# Altium schematic symbol library WCAP-CSST.SchLib: 35 symbols
Pins are listed as number, name and electrical type; pins without a type are passive.

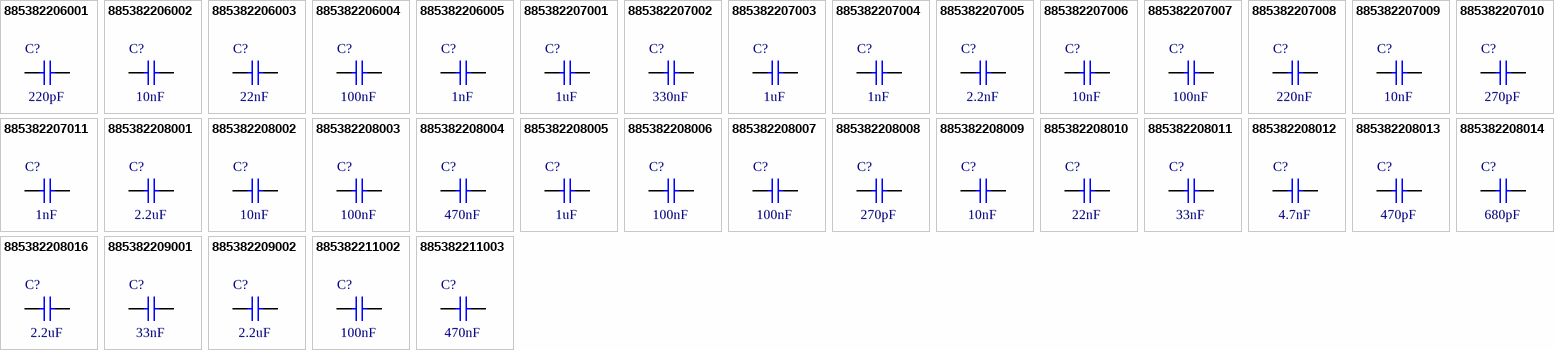
[diagram p0: symbols 885382206001 to 885382211003]

## 885382206001
designator C?, comment 220pF
WCAP-CSST Multilayer Ceramic Chip Capacitor, Soft Termination, SMT, size 0603, X7R Class II, 220pF, 50V; Manufacturer Part Number: 885382206001; Manufacturer: Wurth Elektronik; Case/Size Code: 0603; Capacitance Tolerance: +/-10%; Dissipation Factor: 2.5%; Insulation Resistance: 10GOhm; Technical Reference: X7R0603221K050DFCT1S000; Category: Multilayer Ceramic Chip Capacitors; Match Code: WCAP-CSST; ComponentLink1Description: Website Link; ComponentLink1URL: https://www.we-online.com/redexpert/article/885382206001?ad; ComponentLink2Description: Datasheet Link; ComponentLink2URL: https://www.we-online.com/redexpert/spec/885382206001?ad; Mount: Surface Mount; Operating Temperature Max: 125°C; Operating Temperature Min: -55°C; Packaging: Tape and Reel; Length: 1.6mm; Width: 0.8mm; Height: 0.8mm; Capacitance: 220pF; Ceramic Type: X7R Class II; Rated Voltage (DC): 50V
footprint WCAP-CSST_0603_L1.6W0.8H0.8_Reflow
footprint WCAP-CSST_0603_L1.6W0.8H0.8_Wave
simulation model 0603_885382206001_220pF
pins: 1, 2

## 885382206002
designator C?, comment 10nF
WCAP-CSST Multilayer Ceramic Chip Capacitor, Soft Termination, SMT, size 0603, X7R Class II, 10nF, 50V; Manufacturer Part Number: 885382206002; Manufacturer: Wurth Elektronik; Case/Size Code: 0603; Capacitance Tolerance: +/-10%; Dissipation Factor: 2.5%; Insulation Resistance: 10GOhm; Technical Reference: X7R0603103K050DFCT1S000; Category: Multilayer Ceramic Chip Capacitors; Match Code: WCAP-CSST; ComponentLink1Description: Website Link; ComponentLink1URL: https://www.we-online.com/redexpert/article/885382206002?ad; ComponentLink2Description: Datasheet Link; ComponentLink2URL: https://www.we-online.com/redexpert/spec/885382206002?ad; Mount: Surface Mount; Operating Temperature Max: 125°C; Operating Temperature Min: -55°C; Packaging: Tape and Reel; Length: 1.6mm; Width: 0.8mm; Height: 0.8mm; Capacitance: 10nF; Ceramic Type: X7R Class II; Rated Voltage (DC): 50V
footprint WCAP-CSST_0603_L1.6W0.8H0.8_Reflow
footprint WCAP-CSST_0603_L1.6W0.8H0.8_Wave
simulation model 0603_885382206002_10nF
pins: 1, 2

## 885382206003
designator C?, comment 22nF
WCAP-CSST Multilayer Ceramic Chip Capacitor, Soft Termination, SMT, size 0603, X7R Class II, 22nF, 50V; Manufacturer Part Number: 885382206003; Manufacturer: Wurth Elektronik; Case/Size Code: 0603; Capacitance Tolerance: +/-10%; Dissipation Factor: 2.5%; Insulation Resistance: 10GOhm; Technical Reference: X7R0603223K050DFCT1S000; Category: Multilayer Ceramic Chip Capacitors; Match Code: WCAP-CSST; ComponentLink1Description: Website Link; ComponentLink1URL: https://www.we-online.com/redexpert/article/885382206003?ad; ComponentLink2Description: Datasheet Link; ComponentLink2URL: https://www.we-online.com/redexpert/spec/885382206003?ad; Mount: Surface Mount; Operating Temperature Max: 125°C; Operating Temperature Min: -55°C; Packaging: Tape and Reel; Length: 1.6mm; Width: 0.8mm; Height: 0.8mm; Capacitance: 22nF; Ceramic Type: X7R Class II; Rated Voltage (DC): 50V
footprint WCAP-CSST_0603_L1.6W0.8H0.8_Reflow
footprint WCAP-CSST_0603_L1.6W0.8H0.8_Wave
simulation model 0603_885382206003_22nF
pins: 1, 2

## 885382206004
designator C?, comment 100nF
WCAP-CSST Multilayer Ceramic Chip Capacitor, Soft Termination, SMT, size 0603, X7R Class II, 100nF, 50V; Manufacturer Part Number: 885382206004; Manufacturer: Wurth Elektronik; Case/Size Code: 0603; Capacitance Tolerance: +/-10%; Dissipation Factor: 3%; Insulation Resistance: 5GOhm; Technical Reference: X7R0603104K050DFCT1S000; Category: Multilayer Ceramic Chip Capacitors; Match Code: WCAP-CSST; ComponentLink1Description: Website Link; ComponentLink1URL: https://www.we-online.com/redexpert/article/885382206004?ad; ComponentLink2Description: Datasheet Link; ComponentLink2URL: https://www.we-online.com/redexpert/spec/885382206004?ad; Mount: Surface Mount; Operating Temperature Max: 125°C; Operating Temperature Min: -55°C; Packaging: Tape and Reel; Length: 1.6mm; Width: 0.8mm; Height: 0.8mm; Capacitance: 100nF; Ceramic Type: X7R Class II; Rated Voltage (DC): 50V
footprint WCAP-CSST_0603_L1.6W0.8H0.8_Reflow
footprint WCAP-CSST_0603_L1.6W0.8H0.8_Wave
simulation model 0603_885382206004_100nF
pins: 1, 2

## 885382206005
designator C?, comment 1nF
WCAP-CSST Multilayer Ceramic Chip Capacitor, Soft Termination, SMT, size 0603, X7R Class II, 1nF, 200V; Manufacturer Part Number: 885382206005; Manufacturer: Wurth Elektronik; Case/Size Code: 0603; Capacitance Tolerance: +/-10%; Dissipation Factor: 2.5%; Insulation Resistance: 10GOhm; Technical Reference: X7R0603102K200DFCT1S000; Category: Multilayer Ceramic Chip Capacitors; Match Code: WCAP-CSST; ComponentLink1Description: Website Link; ComponentLink1URL: https://www.we-online.com/redexpert/article/885382206005?ad; ComponentLink2Description: Datasheet Link; ComponentLink2URL: https://www.we-online.com/redexpert/spec/885382206005?ad; Mount: Surface Mount; Operating Temperature Max: 125°C; Operating Temperature Min: -55°C; Packaging: Tape and Reel; Length: 1.6mm; Width: 0.8mm; Height: 0.8mm; Capacitance: 1nF; Ceramic Type: X7R Class II; Rated Voltage (DC): 200V
footprint WCAP-CSST_0603_L1.6W0.8H0.8_Reflow
footprint WCAP-CSST_0603_L1.6W0.8H0.8_Wave
simulation model 0603_885382206005_1nF
pins: 1, 2

## 885382207001
designator C?, comment 1uF
WCAP-CSST Multilayer Ceramic Chip Capacitor, Soft Termination, SMT, size 0805, X7R Class II, 1uF, 16V; Manufacturer Part Number: 885382207001; Manufacturer: Wurth Elektronik; Case/Size Code: 0805; Capacitance Tolerance: +/-10%; Dissipation Factor: 5%; Insulation Resistance: 0.5GOhm; Technical Reference: X7R0805105K016DFCT1S000; Category: Multilayer Ceramic Chip Capacitors; Match Code: WCAP-CSST; ComponentLink1Description: Website Link; ComponentLink1URL: https://www.we-online.com/redexpert/article/885382207001?ad; ComponentLink2Description: Datasheet Link; ComponentLink2URL: https://www.we-online.com/redexpert/spec/885382207001?ad; Mount: Surface Mount; Operating Temperature Max: 125°C; Operating Temperature Min: -55°C; Packaging: Tape and Reel; Length: 2mm; Width: 1.25mm; Height: 1.25mm; Capacitance: 1uF; Ceramic Type: X7R Class II; Rated Voltage (DC): 16V
footprint WCAP-CSST_0805_L2W1.25H1.25
simulation model 0805_885382207001_1uF
pins: 1, 2

## 885382207002
designator C?, comment 330nF
WCAP-CSST Multilayer Ceramic Chip Capacitor, Soft Termination, SMT, size 0805, X7R Class II, 330nF, 25V; Manufacturer Part Number: 885382207002; Manufacturer: Wurth Elektronik; Case/Size Code: 0805; Capacitance Tolerance: +/-10%; Dissipation Factor: 3.5%; Insulation Resistance: 1.5GOhm; Technical Reference: X7R0805334K025DFCT1S000; Category: Multilayer Ceramic Chip Capacitors; Match Code: WCAP-CSST; ComponentLink1Description: Website Link; ComponentLink1URL: https://www.we-online.com/redexpert/article/885382207002?ad; ComponentLink2Description: Datasheet Link; ComponentLink2URL: https://www.we-online.com/redexpert/spec/885382207002?ad; Mount: Surface Mount; Operating Temperature Max: 125°C; Operating Temperature Min: -55°C; Packaging: Tape and Reel; Length: 2mm; Width: 1.25mm; Height: 1.25mm; Capacitance: 330nF; Ceramic Type: X7R Class II; Rated Voltage (DC): 25V
footprint WCAP-CSST_0805_L2W1.25H1.25
simulation model 0805_885382207002_330nF
pins: 1, 2

## 885382207003
designator C?, comment 1uF
WCAP-CSST Multilayer Ceramic Chip Capacitor, Soft Termination, SMT, size 0805, X7R Class II, 1uF, 25V; Manufacturer Part Number: 885382207003; Manufacturer: Wurth Elektronik; Case/Size Code: 0805; Capacitance Tolerance: +/-10%; Dissipation Factor: 5%; Insulation Resistance: 0.5GOhm; Technical Reference: X7R0805105K025DFCT1S000; Category: Multilayer Ceramic Chip Capacitors; Match Code: WCAP-CSST; ComponentLink1Description: Website Link; ComponentLink1URL: https://www.we-online.com/redexpert/article/885382207003?ad; ComponentLink2Description: Datasheet Link; ComponentLink2URL: https://www.we-online.com/redexpert/spec/885382207003?ad; Mount: Surface Mount; Operating Temperature Max: 125°C; Operating Temperature Min: -55°C; Packaging: Tape and Reel; Length: 2mm; Width: 1.25mm; Height: 1.25mm; Capacitance: 1uF; Ceramic Type: X7R Class II; Rated Voltage (DC): 25V
footprint WCAP-CSST_0805_L2W1.25H1.25
simulation model 0805_885382207003_1uF
pins: 1, 2

## 885382207004
designator C?, comment 1nF
WCAP-CSST Multilayer Ceramic Chip Capacitor, Soft Termination, SMT, size 0805, X7R Class II, 1nF, 50V; Manufacturer Part Number: 885382207004; Manufacturer: Wurth Elektronik; Case/Size Code: 0805; Capacitance Tolerance: +/-10%; Dissipation Factor: 2.5%; Insulation Resistance: 10GOhm; Technical Reference: X7R0805102K050DFCT1S000; Category: Multilayer Ceramic Chip Capacitors; Match Code: WCAP-CSST; ComponentLink1Description: Website Link; ComponentLink1URL: https://www.we-online.com/redexpert/article/885382207004?ad; ComponentLink2Description: Datasheet Link; ComponentLink2URL: https://www.we-online.com/redexpert/spec/885382207004?ad; Mount: Surface Mount; Operating Temperature Max: 125°C; Operating Temperature Min: -55°C; Packaging: Tape and Reel; Length: 2mm; Width: 1.25mm; Height: 1.25mm; Capacitance: 1nF; Ceramic Type: X7R Class II; Rated Voltage (DC): 50V
footprint WCAP-CSST_0805_L2W1.25H1.25
simulation model 0805_885382207004_1nF
pins: 1, 2

## 885382207005
designator C?, comment 2.2nF
WCAP-CSST Multilayer Ceramic Chip Capacitor, Soft Termination, SMT, size 0805, X7R Class II, 2.2nF, 50V; Manufacturer Part Number: 885382207005; Manufacturer: Wurth Elektronik; Case/Size Code: 0805; Capacitance Tolerance: +/-10%; Dissipation Factor: 2.5%; Insulation Resistance: 10GOhm; Technical Reference: X7R0805222K050DFCT1S000; Category: Multilayer Ceramic Chip Capacitors; Match Code: WCAP-CSST; ComponentLink1Description: Website Link; ComponentLink1URL: https://www.we-online.com/redexpert/article/885382207005?ad; ComponentLink2Description: Datasheet Link; ComponentLink2URL: https://www.we-online.com/redexpert/spec/885382207005?ad; Mount: Surface Mount; Operating Temperature Max: 125°C; Operating Temperature Min: -55°C; Packaging: Tape and Reel; Length: 2mm; Width: 1.25mm; Height: 1.25mm; Capacitance: 2.2nF; Ceramic Type: X7R Class II; Rated Voltage (DC): 50V
footprint WCAP-CSST_0805_L2W1.25H1.25
simulation model 0805_885382207005_2.2nF
pins: 1, 2

## 885382207006
designator C?, comment 10nF
WCAP-CSST Multilayer Ceramic Chip Capacitor, Soft Termination, SMT, size 0805, X7R Class II, 10nF, 50V; Manufacturer Part Number: 885382207006; Manufacturer: Wurth Elektronik; Case/Size Code: 0805; Capacitance Tolerance: +/-10%; Dissipation Factor: 2.5%; Insulation Resistance: 10GOhm; Technical Reference: X7R0805103K050DFCT1S000; Category: Multilayer Ceramic Chip Capacitors; Match Code: WCAP-CSST; ComponentLink1Description: Website Link; ComponentLink1URL: https://www.we-online.com/redexpert/article/885382207006?ad; ComponentLink2Description: Datasheet Link; ComponentLink2URL: https://www.we-online.com/redexpert/spec/885382207006?ad; Mount: Surface Mount; Operating Temperature Max: 125°C; Operating Temperature Min: -55°C; Packaging: Tape and Reel; Length: 2mm; Width: 1.25mm; Height: 1.25mm; Capacitance: 10nF; Ceramic Type: X7R Class II; Rated Voltage (DC): 50V
footprint WCAP-CSST_0805_L2W1.25H1.25
simulation model 0805_885382207006_10nF
pins: 1, 2

## 885382207007
designator C?, comment 100nF
WCAP-CSST Multilayer Ceramic Chip Capacitor, Soft Termination, SMT, size 0805, X7R Class II, 100nF, 50V; Manufacturer Part Number: 885382207007; Manufacturer: Wurth Elektronik; Case/Size Code: 0805; Capacitance Tolerance: +/-10%; Dissipation Factor: 2.5%; Insulation Resistance: 5GOhm; Technical Reference: X7R0805104K050DFCT1S000; Category: Multilayer Ceramic Chip Capacitors; Match Code: WCAP-CSST; ComponentLink1Description: Website Link; ComponentLink1URL: https://www.we-online.com/redexpert/article/885382207007?ad; ComponentLink2Description: Datasheet Link; ComponentLink2URL: https://www.we-online.com/redexpert/spec/885382207007?ad; Mount: Surface Mount; Operating Temperature Max: 125°C; Operating Temperature Min: -55°C; Packaging: Tape and Reel; Length: 2mm; Width: 1.25mm; Height: 1.25mm; Capacitance: 100nF; Ceramic Type: X7R Class II; Rated Voltage (DC): 50V
footprint WCAP-CSST_0805_L2W1.25H1.25
simulation model 0805_885382207007_100nF
pins: 1, 2

## 885382207008
designator C?, comment 220nF
WCAP-CSST Multilayer Ceramic Chip Capacitor, Soft Termination, SMT, size 0805, X7R Class II, 220nF, 50V; Manufacturer Part Number: 885382207008; Manufacturer: Wurth Elektronik; Case/Size Code: 0805; Capacitance Tolerance: +/-10%; Dissipation Factor: 3%; Insulation Resistance: 2.3GOhm; Technical Reference: X7R0805224K050DFCT1S000; Category: Multilayer Ceramic Chip Capacitors; Match Code: WCAP-CSST; ComponentLink1Description: Website Link; ComponentLink1URL: https://www.we-online.com/redexpert/article/885382207008?ad; ComponentLink2Description: Datasheet Link; ComponentLink2URL: https://www.we-online.com/redexpert/spec/885382207008?ad; Mount: Surface Mount; Operating Temperature Max: 125°C; Operating Temperature Min: -55°C; Packaging: Tape and Reel; Length: 2mm; Width: 1.25mm; Height: 1.25mm; Capacitance: 220nF; Ceramic Type: X7R Class II; Rated Voltage (DC): 50V
footprint WCAP-CSST_0805_L2W1.25H1.25
simulation model 0805_885382207008_220nF
pins: 1, 2

## 885382207009
designator C?, comment 10nF
WCAP-CSST Multilayer Ceramic Chip Capacitor, Soft Termination, SMT, size 0805, X7R Class II, 10nF, 100V; Manufacturer Part Number: 885382207009; Manufacturer: Wurth Elektronik; Case/Size Code: 0805; Capacitance Tolerance: +/-10%; Dissipation Factor: 2.5%; Insulation Resistance: 10GOhm; Technical Reference: X7R0805103K100DFCT1S000; Category: Multilayer Ceramic Chip Capacitors; Match Code: WCAP-CSST; ComponentLink1Description: Website Link; ComponentLink1URL: https://www.we-online.com/redexpert/article/885382207009?ad; ComponentLink2Description: Datasheet Link; ComponentLink2URL: https://www.we-online.com/redexpert/spec/885382207009?ad; Mount: Surface Mount; Operating Temperature Max: 125°C; Operating Temperature Min: -55°C; Packaging: Tape and Reel; Length: 2mm; Width: 1.25mm; Height: 1.25mm; Capacitance: 10nF; Ceramic Type: X7R Class II; Rated Voltage (DC): 100V
footprint WCAP-CSST_0805_L2W1.25H1.25
simulation model 0805_885382207009_10nF
pins: 1, 2

## 885382207010
designator C?, comment 270pF
WCAP-CSST Multilayer Ceramic Chip Capacitor, Soft Termination, SMT, size 0805, X7R Class II, 270pF, 500V; Manufacturer Part Number: 885382207010; Manufacturer: Wurth Elektronik; Case/Size Code: 0805; Capacitance Tolerance: +/-10%; Dissipation Factor: 2.5%; Insulation Resistance: 10GOhm; Technical Reference: X7R0805271K500DFCT1S000; Category: Multilayer Ceramic Chip Capacitors; Match Code: WCAP-CSST; ComponentLink1Description: Website Link; ComponentLink1URL: https://www.we-online.com/redexpert/article/885382207010?ad; ComponentLink2Description: Datasheet Link; ComponentLink2URL: https://www.we-online.com/redexpert/spec/885382207010?ad; Mount: Surface Mount; Operating Temperature Max: 125°C; Operating Temperature Min: -55°C; Packaging: Tape and Reel; Length: 2mm; Width: 1.25mm; Height: 1.25mm; Capacitance: 270pF; Ceramic Type: X7R Class II; Rated Voltage (DC): 500V
footprint WCAP-CSST_0805_L2W1.25H1.25
simulation model 0805_885382207010_270pF
pins: 1, 2

## 885382207011
designator C?, comment 1nF
WCAP-CSST Multilayer Ceramic Chip Capacitor, Soft Termination, SMT, size 0805, X7R Class II, 1nF, 100V; Manufacturer Part Number: 885382207011; Manufacturer: Wurth Elektronik; Case/Size Code: 0805; Capacitance Tolerance: +/-10%; Dissipation Factor: 2.5%; Insulation Resistance: 10GOhm; Technical Reference: X7R0805102K100DFCT1S000; Category: Multilayer Ceramic Chip Capacitors; Match Code: WCAP-CSST; ComponentLink1Description: Website Link; ComponentLink1URL: https://www.we-online.com/redexpert/article/885382207011?ad; ComponentLink2Description: Datasheet Link; ComponentLink2URL: https://www.we-online.com/redexpert/spec/885382207011?ad; Mount: Surface Mount; Operating Temperature Max: 125°C; Operating Temperature Min: -55°C; Packaging: Tape and Reel; Length: 2mm; Width: 1.25mm; Height: 1.25mm; Capacitance: 1nF; Ceramic Type: X7R Class II; Rated Voltage (DC): 100V
footprint WCAP-CSST_0805_L2W1.25H1.25
simulation model 0805_885382207011_1nF
pins: 1, 2

## 885382208001
designator C?, comment 2.2uF
WCAP-CSST Multilayer Ceramic Chip Capacitor, Soft Termination, SMT, size 1206, X7R Class II, 2.2uF, 25V; Manufacturer Part Number: 885382208001; Manufacturer: Wurth Elektronik; Case/Size Code: 1206; Capacitance Tolerance: +/-10%; Dissipation Factor: 3.5%; Insulation Resistance: 0.2GOhm; Technical Reference: X7R1206225K025DFCT1S000; Category: Multilayer Ceramic Chip Capacitors; Match Code: WCAP-CSST; ComponentLink1Description: Website Link; ComponentLink1URL: https://www.we-online.com/redexpert/article/885382208001?ad; ComponentLink2Description: Datasheet Link; ComponentLink2URL: https://www.we-online.com/redexpert/spec/885382208001?ad; Mount: Surface Mount; Operating Temperature Max: 125°C; Operating Temperature Min: -55°C; Packaging: Tape and Reel; Length: 3.2mm; Width: 1.6mm; Height: 1.6mm; Capacitance: 2.2uF; Ceramic Type: X7R Class II; Rated Voltage (DC): 25V
footprint WCAP-CSST_1206_L3.2W1.6H1.6
simulation model 1206_885382208001_2.2uF
pins: 1, 2

## 885382208002
designator C?, comment 10nF
WCAP-CSST Multilayer Ceramic Chip Capacitor, Soft Termination, SMT, size 1206, X7R Class II, 10nF, 50V; Manufacturer Part Number: 885382208002; Manufacturer: Wurth Elektronik; Case/Size Code: 1206; Capacitance Tolerance: +/-10%; Dissipation Factor: 2.5%; Insulation Resistance: 10GOhm; Technical Reference: X7R1206103K050DFCT1S000; Category: Multilayer Ceramic Chip Capacitors; Match Code: WCAP-CSST; ComponentLink1Description: Website Link; ComponentLink1URL: https://www.we-online.com/redexpert/article/885382208002?ad; ComponentLink2Description: Datasheet Link; ComponentLink2URL: https://www.we-online.com/redexpert/spec/885382208002?ad; Mount: Surface Mount; Operating Temperature Max: 125°C; Operating Temperature Min: -55°C; Packaging: Tape and Reel; Length: 3.2mm; Width: 1.6mm; Height: 1.25mm; Capacitance: 10nF; Ceramic Type: X7R Class II; Rated Voltage (DC): 50V
footprint WCAP-CSST_1206_L3.2W1.6H1.25
simulation model 1206_885382208002_10nF
pins: 1, 2

## 885382208003
designator C?, comment 100nF
WCAP-CSST Multilayer Ceramic Chip Capacitor, Soft Termination, SMT, size 1206, X7R Class II, 100nF, 50V; Manufacturer Part Number: 885382208003; Manufacturer: Wurth Elektronik; Case/Size Code: 1206; Capacitance Tolerance: +/-10%; Dissipation Factor: 2.5%; Insulation Resistance: 5GOhm; Technical Reference: X7R1206104K050DFCT1S000; Category: Multilayer Ceramic Chip Capacitors; Match Code: WCAP-CSST; ComponentLink1Description: Website Link; ComponentLink1URL: https://www.we-online.com/redexpert/article/885382208003?ad; ComponentLink2Description: Datasheet Link; ComponentLink2URL: https://www.we-online.com/redexpert/spec/885382208003?ad; Mount: Surface Mount; Operating Temperature Max: 125°C; Operating Temperature Min: -55°C; Packaging: Tape and Reel; Length: 3.2mm; Width: 1.6mm; Height: 1.25mm; Capacitance: 100nF; Ceramic Type: X7R Class II; Rated Voltage (DC): 50V
footprint WCAP-CSST_1206_L3.2W1.6H1.25
simulation model 1206_885382208003_100nF
pins: 1, 2

## 885382208004
designator C?, comment 470nF
WCAP-CSST Multilayer Ceramic Chip Capacitor, Soft Termination, SMT, size 1206, X7R Class II, 470nF, 50V; Manufacturer Part Number: 885382208004; Manufacturer: Wurth Elektronik; Case/Size Code: 1206; Capacitance Tolerance: +/-10%; Dissipation Factor: 3%; Insulation Resistance: 1GOhm; Technical Reference: X7R1206474K050DFCT1S000; Category: Multilayer Ceramic Chip Capacitors; Match Code: WCAP-CSST; ComponentLink1Description: Website Link; ComponentLink1URL: https://www.we-online.com/redexpert/article/885382208004?ad; ComponentLink2Description: Datasheet Link; ComponentLink2URL: https://www.we-online.com/redexpert/spec/885382208004?ad; Mount: Surface Mount; Operating Temperature Max: 125°C; Operating Temperature Min: -55°C; Packaging: Tape and Reel; Length: 3.2mm; Width: 1.6mm; Height: 1.6mm; Capacitance: 470nF; Ceramic Type: X7R Class II; Rated Voltage (DC): 50V
footprint WCAP-CSST_1206_L3.2W1.6H1.6
simulation model 1206_885382208004_470nF
pins: 1, 2

## 885382208005
designator C?, comment 1uF
WCAP-CSST Multilayer Ceramic Chip Capacitor, Soft Termination, SMT, size 1206, X7R Class II, 1uF, 50V; Manufacturer Part Number: 885382208005; Manufacturer: Wurth Elektronik; Case/Size Code: 1206; Capacitance Tolerance: +/-10%; Dissipation Factor: 3%; Insulation Resistance: 0.5GOhm; Technical Reference: X7R1206105K050DFCT1S000; Category: Multilayer Ceramic Chip Capacitors; Match Code: WCAP-CSST; ComponentLink1Description: Website Link; ComponentLink1URL: https://www.we-online.com/redexpert/article/885382208005?ad; ComponentLink2Description: Datasheet Link; ComponentLink2URL: https://www.we-online.com/redexpert/spec/885382208005?ad; Mount: Surface Mount; Operating Temperature Max: 125°C; Operating Temperature Min: -55°C; Packaging: Tape and Reel; Length: 3.2mm; Width: 1.6mm; Height: 1.6mm; Capacitance: 1uF; Ceramic Type: X7R Class II; Rated Voltage (DC): 50V
footprint WCAP-CSST_1206_L3.2W1.6H1.6
simulation model 1206_885382208005_1uF
pins: 1, 2

## 885382208006
designator C?, comment 100nF
WCAP-CSST Multilayer Ceramic Chip Capacitor, Soft Termination, SMT, size 1206, X7R Class II, 100nF, 100V; Manufacturer Part Number: 885382208006; Manufacturer: Wurth Elektronik; Case/Size Code: 1206; Capacitance Tolerance: +/-10%; Dissipation Factor: 2.5%; Insulation Resistance: 1GOhm; Technical Reference: X7R1206104K100DFCT1S000; Category: Multilayer Ceramic Chip Capacitors; Match Code: WCAP-CSST; ComponentLink1Description: Website Link; ComponentLink1URL: https://www.we-online.com/redexpert/article/885382208006?ad; ComponentLink2Description: Datasheet Link; ComponentLink2URL: https://www.we-online.com/redexpert/spec/885382208006?ad; Mount: Surface Mount; Operating Temperature Max: 125°C; Operating Temperature Min: -55°C; Packaging: Tape and Reel; Length: 3.2mm; Width: 1.6mm; Height: 1.25mm; Capacitance: 100nF; Ceramic Type: X7R Class II; Rated Voltage (DC): 100V
footprint WCAP-CSST_1206_L3.2W1.6H1.25
simulation model 1206_885382208006_100nF
pins: 1, 2

## 885382208007
designator C?, comment 100nF
WCAP-CSST Multilayer Ceramic Chip Capacitor, Soft Termination, SMT, size 1206, X7R Class II, 100nF, 250V; Manufacturer Part Number: 885382208007; Manufacturer: Wurth Elektronik; Case/Size Code: 1206; Capacitance Tolerance: +/-10%; Dissipation Factor: 2.5%; Insulation Resistance: 1GOhm; Technical Reference: X7R1206104K250DFCT1S000; Category: Multilayer Ceramic Chip Capacitors; Match Code: WCAP-CSST; ComponentLink1Description: Website Link; ComponentLink1URL: https://www.we-online.com/redexpert/article/885382208007?ad; ComponentLink2Description: Datasheet Link; ComponentLink2URL: https://www.we-online.com/redexpert/spec/885382208007?ad; Mount: Surface Mount; Operating Temperature Max: 125°C; Operating Temperature Min: -55°C; Packaging: Tape and Reel; Length: 3.2mm; Width: 1.6mm; Height: 1.6mm; Capacitance: 100nF; Ceramic Type: X7R Class II; Rated Voltage (DC): 250V
footprint WCAP-CSST_1206_L3.2W1.6H1.6
simulation model 1206_885382208007_100nF
pins: 1, 2

## 885382208008
designator C?, comment 270pF
WCAP-CSST Multilayer Ceramic Chip Capacitor, Soft Termination, SMT, size 1206, X7R Class II, 270pF, 500V; Manufacturer Part Number: 885382208008; Manufacturer: Wurth Elektronik; Case/Size Code: 1206; Capacitance Tolerance: +/-10%; Dissipation Factor: 2.5%; Insulation Resistance: 10GOhm; Technical Reference: X7R1206271K500DFCT1S000; Category: Multilayer Ceramic Chip Capacitors; Match Code: WCAP-CSST; ComponentLink1Description: Website Link; ComponentLink1URL: https://www.we-online.com/redexpert/article/885382208008?ad; ComponentLink2Description: Datasheet Link; ComponentLink2URL: https://www.we-online.com/redexpert/spec/885382208008?ad; Mount: Surface Mount; Operating Temperature Max: 125°C; Operating Temperature Min: -55°C; Packaging: Tape and Reel; Length: 3.2mm; Width: 1.6mm; Height: 1.25mm; Capacitance: 270pF; Ceramic Type: X7R Class II; Rated Voltage (DC): 500V
footprint WCAP-CSST_1206_L3.2W1.6H1.25
simulation model 1206_885382208008_270pF
pins: 1, 2

## 885382208009
designator C?, comment 10nF
WCAP-CSST Multilayer Ceramic Chip Capacitor, Soft Termination, SMT, size 1206, X7R Class II, 10nF, 500V; Manufacturer Part Number: 885382208009; Manufacturer: Wurth Elektronik; Case/Size Code: 1206; Capacitance Tolerance: +/-10%; Dissipation Factor: 2.5%; Insulation Resistance: 10GOhm; Technical Reference: X7R1206103K500DFCT1S000; Category: Multilayer Ceramic Chip Capacitors; Match Code: WCAP-CSST; ComponentLink1Description: Website Link; ComponentLink1URL: https://www.we-online.com/redexpert/article/885382208009?ad; ComponentLink2Description: Datasheet Link; ComponentLink2URL: https://www.we-online.com/redexpert/spec/885382208009?ad; Mount: Surface Mount; Operating Temperature Max: 125°C; Operating Temperature Min: -55°C; Packaging: Tape and Reel; Length: 3.2mm; Width: 1.6mm; Height: 1.25mm; Capacitance: 10nF; Ceramic Type: X7R Class II; Rated Voltage (DC): 500V
footprint WCAP-CSST_1206_L3.2W1.6H1.25
simulation model 1206_885382208009_10nF
pins: 1, 2

## 885382208010
designator C?, comment 22nF
WCAP-CSST Multilayer Ceramic Chip Capacitor, Soft Termination, SMT, size 1206, X7R Class II, 22nF, 500V; Manufacturer Part Number: 885382208010; Manufacturer: Wurth Elektronik; Case/Size Code: 1206; Capacitance Tolerance: +/-10%; Dissipation Factor: 2.5%; Insulation Resistance: 4.5GOhm; Technical Reference: X7R1206223K500DFCT1S000; Category: Multilayer Ceramic Chip Capacitors; Match Code: WCAP-CSST; ComponentLink1Description: Website Link; ComponentLink1URL: https://www.we-online.com/redexpert/article/885382208010?ad; ComponentLink2Description: Datasheet Link; ComponentLink2URL: https://www.we-online.com/redexpert/spec/885382208010?ad; Mount: Surface Mount; Operating Temperature Max: 125°C; Operating Temperature Min: -55°C; Packaging: Tape and Reel; Length: 3.2mm; Width: 1.6mm; Height: 1.6mm; Capacitance: 22nF; Ceramic Type: X7R Class II; Rated Voltage (DC): 500V
footprint WCAP-CSST_1206_L3.2W1.6H1.6
simulation model 1206_885382208010_22nF
pins: 1, 2

## 885382208011
designator C?, comment 33nF
WCAP-CSST Multilayer Ceramic Chip Capacitor, Soft Termination, SMT, size 1206, X7R Class II, 33nF, 500V; Manufacturer Part Number: 885382208011; Manufacturer: Wurth Elektronik; Case/Size Code: 1206; Capacitance Tolerance: +/-10%; Dissipation Factor: 2.5%; Insulation Resistance: 3GOhm; Technical Reference: X7R1206333K500DFCT1S000; Category: Multilayer Ceramic Chip Capacitors; Match Code: WCAP-CSST; ComponentLink1Description: Website Link; ComponentLink1URL: https://www.we-online.com/redexpert/article/885382208011?ad; ComponentLink2Description: Datasheet Link; ComponentLink2URL: https://www.we-online.com/redexpert/spec/885382208011?ad; Mount: Surface Mount; Operating Temperature Max: 125°C; Operating Temperature Min: -55°C; Packaging: Tape and Reel; Length: 3.2mm; Width: 1.6mm; Height: 1.6mm; Capacitance: 33nF; Ceramic Type: X7R Class II; Rated Voltage (DC): 500V
footprint WCAP-CSST_1206_L3.2W1.6H1.6
simulation model 1206_885382208011_33nF
pins: 1, 2

## 885382208012
designator C?, comment 4.7nF
WCAP-CSST Multilayer Ceramic Chip Capacitor, Soft Termination, SMT, size 1206, X7R Class II, 4.7nF, 1000V; Manufacturer Part Number: 885382208012; Manufacturer: Wurth Elektronik; Case/Size Code: 1206; Capacitance Tolerance: +/-10%; Dissipation Factor: 2.5%; Insulation Resistance: 10GOhm; Technical Reference: X7R1206472KA00DFCT1S000; Category: Multilayer Ceramic Chip Capacitors; Match Code: WCAP-CSST; ComponentLink1Description: Website Link; ComponentLink1URL: https://www.we-online.com/redexpert/article/885382208012?ad; ComponentLink2Description: Datasheet Link; ComponentLink2URL: https://www.we-online.com/redexpert/spec/885382208012?ad; Mount: Surface Mount; Operating Temperature Max: 125°C; Operating Temperature Min: -55°C; Packaging: Tape and Reel; Length: 3.2mm; Width: 1.6mm; Height: 1.25mm; Capacitance: 4.7nF; Ceramic Type: X7R Class II; Rated Voltage (DC): 1000V
footprint WCAP-CSST_1206_L3.2W1.6H1.25
simulation model 1206_885382208012_4.7nF
pins: 1, 2

## 885382208013
designator C?, comment 470pF
WCAP-CSST Multilayer Ceramic Chip Capacitor, Soft Termination, SMT, size 1206, X7R Class II, 470pF, 2000V; Manufacturer Part Number: 885382208013; Manufacturer: Wurth Elektronik; Case/Size Code: 1206; Capacitance Tolerance: +/-10%; Dissipation Factor: 2.5%; Insulation Resistance: 10GOhm; Technical Reference: X7R1206471KB00DFCT1S000; Category: Multilayer Ceramic Chip Capacitors; Match Code: WCAP-CSST; ComponentLink1Description: Website Link; ComponentLink1URL: https://www.we-online.com/redexpert/article/885382208013?ad; ComponentLink2Description: Datasheet Link; ComponentLink2URL: https://www.we-online.com/redexpert/spec/885382208013?ad; Mount: Surface Mount; Operating Temperature Max: 125°C; Operating Temperature Min: -55°C; Packaging: Tape and Reel; Length: 3.2mm; Width: 1.6mm; Height: 1.25mm; Capacitance: 470pF; Ceramic Type: X7R Class II; Rated Voltage (DC): 2000V
footprint WCAP-CSST_1206_L3.2W1.6H1.25
simulation model 1206_885382208013_470pF
pins: 1, 2

## 885382208014
designator C?, comment 680pF
WCAP-CSST Multilayer Ceramic Chip Capacitor, Soft Termination, SMT, size 1206, X7R Class II, 680pF, 2000V; Manufacturer Part Number: 885382208014; Manufacturer: Wurth Elektronik; Case/Size Code: 1206; Capacitance Tolerance: +/-10%; Dissipation Factor: 2.5%; Insulation Resistance: 10GOhm; Technical Reference: X7R1206681KB00DFCT1S000; Category: Multilayer Ceramic Chip Capacitors; Match Code: WCAP-CSST; ComponentLink1Description: Website Link; ComponentLink1URL: https://www.we-online.com/redexpert/article/885382208014?ad; ComponentLink2Description: Datasheet Link; ComponentLink2URL: https://www.we-online.com/redexpert/spec/885382208014?ad; Mount: Surface Mount; Operating Temperature Max: 125°C; Operating Temperature Min: -55°C; Packaging: Tape and Reel; Length: 3.2mm; Width: 1.6mm; Height: 1.25mm; Capacitance: 680pF; Ceramic Type: X7R Class II; Rated Voltage (DC): 2000V
footprint WCAP-CSST_1206_L3.2W1.6H1.25
simulation model 1206_885382208014_680pF
pins: 1, 2

## 885382208016
designator C?, comment 2.2uF
WCAP-CSST Multilayer Ceramic Chip Capacitor, Soft Termination, SMT, size 1206, X7R Class II, 2.2uF, 100V; Manufacturer Part Number: 885382208016; Manufacturer: Wurth Elektronik; Case/Size Code: 1206; Capacitance Tolerance: +/-10%; Dissipation Factor: 5%; Insulation Resistance: 0.05GOhm; Technical Reference: X7R1206225K100DFCT1S000; Category: Multilayer Ceramic Chip Capacitors; Match Code: WCAP-CSST; ComponentLink1Description: Website Link; ComponentLink1URL: https://www.we-online.com/redexpert/article/885382208016?ad; ComponentLink2Description: Datasheet Link; ComponentLink2URL: https://www.we-online.com/redexpert/spec/885382208016?ad; Mount: Surface Mount; Operating Temperature Max: 125°C; Operating Temperature Min: -55°C; Packaging: Tape and Reel; Length: 3.2mm; Width: 1.6mm; Height: 1.6mm; Capacitance: 2.2uF; Ceramic Type: X7R Class II; Rated Voltage (DC): 100V
footprint WCAP-CSST_1206_L3.2W1.6H1.6
pins: 1, 2

## 885382209001
designator C?, comment 33nF
WCAP-CSST Multilayer Ceramic Chip Capacitor, Soft Termination, SMT, size 1210, X7R Class II, 33nF, 500V; Manufacturer Part Number: 885382209001; Manufacturer: Wurth Elektronik; Case/Size Code: 1210; Capacitance Tolerance: +/-10%; Dissipation Factor: 2.5%; Insulation Resistance: 3GOhm; Technical Reference: X7R1210333K500DFCT1S000; Category: Multilayer Ceramic Chip Capacitors; Match Code: WCAP-CSST; ComponentLink1Description: Website Link; ComponentLink1URL: https://www.we-online.com/redexpert/article/885382209001?ad; ComponentLink2Description: Datasheet Link; ComponentLink2URL: https://www.we-online.com/redexpert/spec/885382209001?ad; Mount: Surface Mount; Operating Temperature Max: 125°C; Operating Temperature Min: -55°C; Packaging: Tape and Reel; Length: 3.2mm; Width: 2.5mm; Height: 1.6mm; Capacitance: 33nF; Ceramic Type: X7R Class II; Rated Voltage (DC): 500V
footprint WCAP-CSST_1210_L3.2W2.5H1.6
simulation model 1210_885382209001_33nF
pins: 1, 2

## 885382209002
designator C?, comment 2.2uF
WCAP-CSST Multilayer Ceramic Chip Capacitor, Soft Termination, SMT, size 1210, X7R Class II, 2.2uF, 100V; Manufacturer Part Number: 885382209002; Manufacturer: Wurth Elektronik; Case/Size Code: 1210; Capacitance Tolerance: +/-10%; Dissipation Factor: 5%; Insulation Resistance: 0.05GOhm; Technical Reference: X7R1210225K100DFCT1S000; Category: Multilayer Ceramic Chip Capacitors; Match Code: WCAP-CSST; ComponentLink1Description: Website Link; ComponentLink1URL: https://www.we-online.com/redexpert/article/885382209002?ad; ComponentLink2Description: Datasheet Link; ComponentLink2URL: https://www.we-online.com/redexpert/spec/885382209002?ad; Mount: Surface Mount; Operating Temperature Max: 125°C; Operating Temperature Min: -55°C; Packaging: Tape and Reel; Length: 3.2mm; Width: 2.5mm; Height: 2.5mm; Capacitance: 2.2uF; Ceramic Type: X7R Class II; Rated Voltage (DC): 100V
footprint WCAP-CSST_1210_L3.2W2.5H2.5
simulation model 1210_885382209002_2.2uF
pins: 1, 2

## 885382211002
designator C?, comment 100nF
WCAP-CSST Multilayer Ceramic Chip Capacitor, Soft Termination, SMT, size 1812, X7R Class II, 100nF, 1000V; Manufacturer Part Number: 885382211002; Manufacturer: Wurth Elektronik; Case/Size Code: 1812; Capacitance Tolerance: +/-10%; Dissipation Factor: 2.5%; Insulation Resistance: 1GOhm; Technical Reference: X7R1812104KA00DFCT1S000; Category: Multilayer Ceramic Chip Capacitors; Match Code: WCAP-CSST; ComponentLink1Description: Website Link; ComponentLink1URL: https://www.we-online.com/redexpert/article/885382211002?ad; ComponentLink2Description: Datasheet Link; ComponentLink2URL: https://www.we-online.com/redexpert/spec/885382211002?ad; Mount: Surface Mount; Operating Temperature Max: 125°C; Operating Temperature Min: -55°C; Packaging: Tape and Reel; Length: 4.5mm; Width: 3.2mm; Height: 2.5mm; Capacitance: 100nF; Ceramic Type: X7R Class II; Rated Voltage (DC): 1000V
footprint WCAP-CSST_1812_L4.5W3.2H2.5
simulation model 1812_885382211002_100nF
pins: 1, 2

## 885382211003
designator C?, comment 470nF
WCAP-CSST Multilayer Ceramic Chip Capacitor, Soft Termination, SMT, size 1812, X7R Class II, 470nF, 500V; Manufacturer Part Number: 885382211003; Manufacturer: Wurth Elektronik; Case/Size Code: 1812; Capacitance Tolerance: +/-10%; Dissipation Factor: 2.5%; Insulation Resistance: 0.2GOhm; Technical Reference: X7R1812474K500DFCT1S000; Category: Multilayer Ceramic Chip Capacitors; Match Code: WCAP-CSST; ComponentLink1Description: Website Link; ComponentLink1URL: https://www.we-online.com/redexpert/article/885382211003?ad; ComponentLink2Description: Datasheet Link; ComponentLink2URL: https://www.we-online.com/redexpert/spec/885382211003?ad; Mount: Surface Mount; Operating Temperature Max: 125°C; Operating Temperature Min: -55°C; Packaging: Tape and Reel; Length: 4.5mm; Width: 3.2mm; Height: 2.5mm; Capacitance: 470nF; Ceramic Type: X7R Class II; Rated Voltage (DC): 500V
footprint WCAP-CSST_1812_L4.5W3.2H2.5
pins: 1, 2